# EAGLE library part DRAGON-BOARD (library DragonBoard)
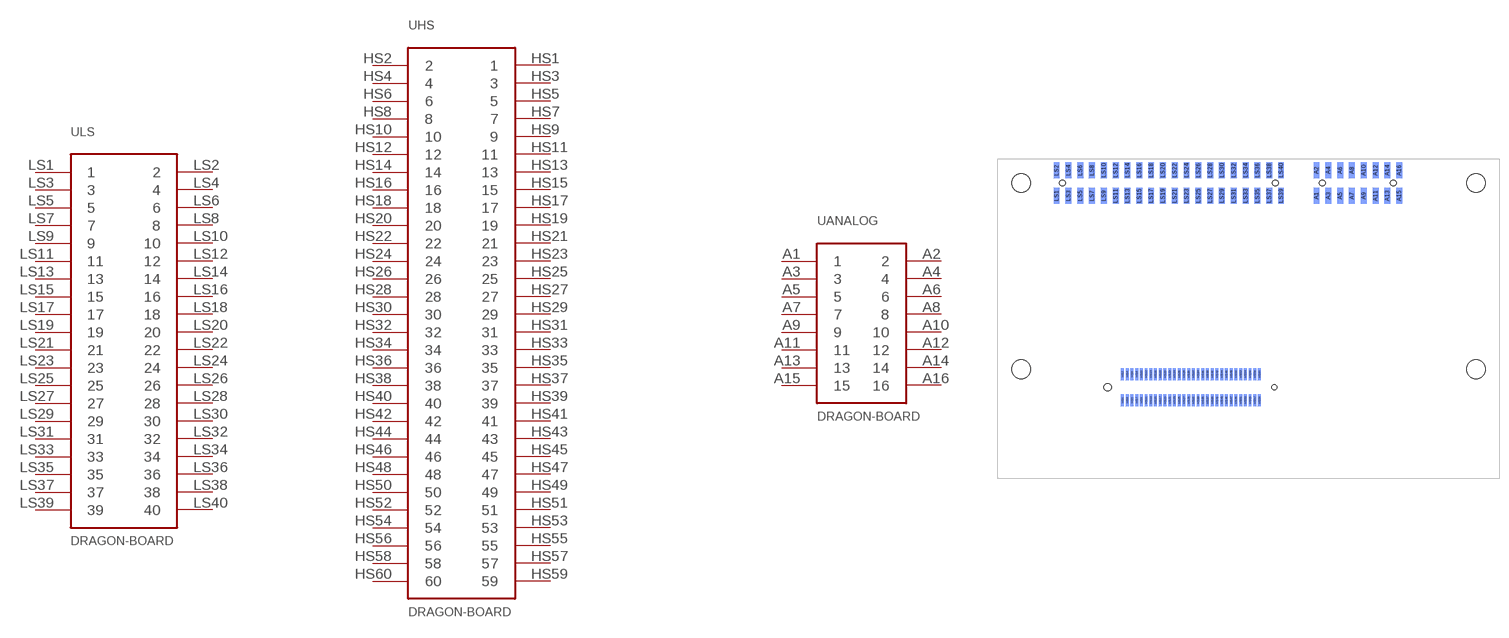
[diagram p0: symbol with the pads of DROGENBOARD; footprint DROGENBOARD]

Designator prefix -; gates ANALOG=20-PIN HS=60-PIN LS=40-PIN

## DRAGON-BOARD  [DROGENBOARD]
A1  ANALOG:1
A2  ANALOG:2
A3  ANALOG:3
A4  ANALOG:4
A5  ANALOG:5
A6  ANALOG:6
A7  ANALOG:7
A8  ANALOG:8
A9  ANALOG:9
A10  ANALOG:10
A11  ANALOG:11
A12  ANALOG:12
A13  ANALOG:13
A14  ANALOG:14
A15  ANALOG:15
A16  ANALOG:16
HS1  HS:1
HS2  HS:2
HS3  HS:3
HS4  HS:4
HS5  HS:5
HS6  HS:6
HS7  HS:7
HS8  HS:8
HS9  HS:9
HS10  HS:10
HS11  HS:11
HS12  HS:12
HS13  HS:13
HS14  HS:14
HS15  HS:15
HS16  HS:16
HS17  HS:17
HS18  HS:18
HS19  HS:19
HS20  HS:20
HS21  HS:21
HS22  HS:22
HS23  HS:23
HS24  HS:24
HS25  HS:25
HS26  HS:26
HS27  HS:27
HS28  HS:28
HS29  HS:29
HS30  HS:30
HS31  HS:31
HS32  HS:32
HS33  HS:33
HS34  HS:34
HS35  HS:35
HS36  HS:36
HS37  HS:37
HS38  HS:38
HS39  HS:39
HS40  HS:40
HS41  HS:41
HS42  HS:42
HS43  HS:43
HS44  HS:44
HS45  HS:45
HS46  HS:46
HS47  HS:47
HS48  HS:48
HS49  HS:49
HS50  HS:50
HS51  HS:51
HS52  HS:52
HS53  HS:53
HS54  HS:54
HS55  HS:55
HS56  HS:56
HS57  HS:57
HS58  HS:58
HS59  HS:59
HS60  HS:60
LS1  LS:1
LS2  LS:2
LS3  LS:3
LS4  LS:4
LS5  LS:5
LS6  LS:6
LS7  LS:7
LS8  LS:8
LS9  LS:9
LS10  LS:10
LS11  LS:11
LS12  LS:12
LS13  LS:13
LS14  LS:14
LS15  LS:15
LS16  LS:16
LS17  LS:17
LS18  LS:18
LS19  LS:19
LS20  LS:20
LS21  LS:21
LS22  LS:22
LS23  LS:23
LS24  LS:24
LS25  LS:25
LS26  LS:26
LS27  LS:27
LS28  LS:28
LS29  LS:29
LS30  LS:30
LS31  LS:31
LS32  LS:32
LS33  LS:33
LS34  LS:34
LS35  LS:35
LS36  LS:36
LS37  LS:37
LS38  LS:38
LS39  LS:39
LS40  LS:40

## Footprint DROGENBOARD (pad centres in mm)
smd 1 x 2.75 bottom: A1 54,47.85; A2 54,52.15; A3 56,47.85; A4 56,52.15; A5 58,47.85; A6 58,52.15; A7 60,47.85; A8 60,52.15; A9 62,47.85; A10 62,52.15; A11 64,47.85; A12 64,52.15; A13 66,47.85; A14 66,52.15; A15 68,47.85; A16 68,52.15; LS1 10,47.85; LS2 10,52.15; LS3 12,47.85; LS4 12,52.15; LS5 14,47.85; LS6 14,52.15; LS7 16,47.85; LS8 16,52.15; LS9 18,47.85; LS10 18,52.15; LS11 20,47.85; LS12 20,52.15; LS13 22,47.85; LS14 22,52.15; LS15 24,47.85; LS16 24,52.15; LS17 26,47.85; LS18 26,52.15; LS19 28,47.85; LS20 28,52.15; LS21 30,47.85; LS22 30,52.15; LS23 32,47.85; LS24 32,52.15; LS25 34,47.85; LS26 34,52.15; LS27 36,47.85; LS28 36,52.15; LS29 38,47.85; LS30 38,52.15; LS31 40,47.85; LS32 40,52.15; LS33 42,47.85; LS34 42,52.15; LS35 44,47.85; LS36 44,52.15; LS37 46,47.85; LS38 46,52.15; LS39 48,47.85; LS40 48,52.15
smd 0.5 x 2 bottom: HS1 21.15,13.25; HS2 21.15,17.65; HS3 21.95,13.25; HS4 21.95,17.65; HS5 22.75,13.25; HS6 22.75,17.65; HS7 23.55,13.25; HS8 23.55,17.65; HS9 24.35,13.25; HS10 24.35,17.65; HS11 25.15,13.25; HS12 25.15,17.65; HS13 25.95,13.25; HS14 25.95,17.65; HS15 26.75,13.25; HS16 26.75,17.65; HS17 27.55,13.25; HS18 27.55,17.65; HS19 28.35,13.25; HS20 28.35,17.65; HS21 29.15,13.25; HS22 29.15,17.65; HS23 29.95,13.25; HS24 29.95,17.65; HS25 30.75,13.25; HS26 30.75,17.65; HS27 31.55,13.25; HS28 31.55,17.65; HS29 32.35,13.25; HS30 32.35,17.65; HS31 33.15,13.25; HS32 33.15,17.65; HS33 33.95,13.25; HS34 33.95,17.65; HS35 34.75,13.25; HS36 34.75,17.65; HS37 35.55,13.25; HS38 35.55,17.65; HS39 36.35,13.25; HS40 36.35,17.65; HS41 37.15,13.25; HS42 37.15,17.65; HS43 37.95,13.25; HS44 37.95,17.65; HS45 38.75,13.25; HS46 38.75,17.65; HS47 39.55,13.25; HS48 39.55,17.65; HS49 40.35,13.25; HS50 40.35,17.65; HS51 41.15,13.25; HS52 41.15,17.65; HS53 41.95,13.25; HS54 41.95,17.65; HS55 42.75,13.25; HS56 42.75,17.65; HS57 43.55,13.25; HS58 43.55,17.65; HS59 44.35,13.25; HS60 44.35,17.65
hole 1 at 11,50
hole 1 at 47,50
hole 0.85 at 46.85,15.45
hole 1.215 at 18.65,15.45
hole 1 at 67,50
hole 1 at 55,50
hole 3.2 at 4,18.5
hole 3.2 at 4,50
hole 3.2 at 81,18.5
hole 3.2 at 81,50